# Altium integrated library Oscillator - TCXO.IntLib: 15 symbols
Pins are listed as number, name and electrical type; pins without a type are passive.

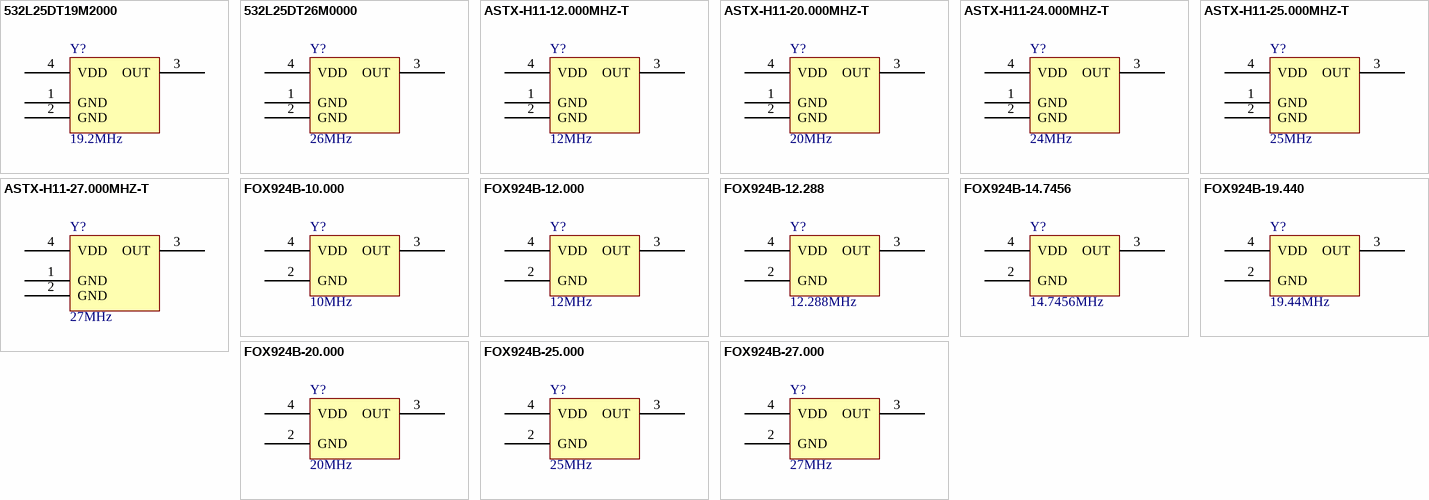
[diagram p0: symbols 532L25DT19M2000 to FOX924B-27.000]

## 532L25DT19M2000
designator Y?, comment 19.2MHz
OSC TCXO 19.2MHZ CLPSNWV SMD; Part Number: 532L25DT19M2000; Manufacturer: CTS-Frequency Controls; Frequency Stability: 2.5ppm; PartId: 9103; Supplier 1: Digi-Key; Supplier Part Number 1: CTX808TR-ND; ComponentLink1Description: Datasheet; ComponentLink1URL: http://www.ctscorp.com/wp-content/uploads/2015/11/008-0324-0.pdf; ComponentLink2Description: Digi-Key Listing; ComponentLink2URL: http://www.digikey.com/product-search/en?pv7=1&FV=ffec2ac1&mnonly=0&newproducts=0&ColumnSort=0&page=1&stock=1&quantity=0&ptm=0&fid=0&pageSize=500; Price: 2.73; Type: TCXO; Device Package: 4-SMD, No Lead (DFN, LCC); Frequency: 19.2MHz
footprint CTS Model 532
pins: 1 GND, 2 GND, 3 OUT, 4 VDD

## 532L25DT26M0000
designator Y?, comment 26MHz
OSC TCXO 26.000MHZ SINE WAVE SMD; Part Number: 532L25DT26M0000; Manufacturer: CTS-Frequency Controls; Frequency Stability: 2.5ppm; PartId: 9104; Supplier 1: Digi-Key; Supplier Part Number 1: CTX810CT-ND; ComponentLink1Description: Datasheet; ComponentLink1URL: http://www.ctscorp.com/wp-content/uploads/2015/11/008-0324-0.pdf; ComponentLink2Description: Digi-Key Listing; ComponentLink2URL: http://www.digikey.com/product-detail/en/532L25DT26M0000/CTX810CT-ND/1939236; Price: 3.81; Type: TCXO; Device Package: 4-SMD, No Lead (DFN, LCC); Frequency: 26MHz
footprint CTS Model 532
pins: 1 GND, 2 GND, 3 OUT, 4 VDD

## ASTX-H11-12.000MHZ-T
designator Y?, comment 12MHz
OSC TCXO 12.000MHZ HCMOS SMD; Part Number: ASTX-H11-12.000MHZ-T; Manufacturer: Abracon LLC; Frequency Stability: 2.5ppm; PartId: 9145; Supplier 1: Digi-Key; Supplier Part Number 1: 535-12043-2-ND; ComponentLink1Description: Datasheet; ComponentLink1URL: http://www.abracon.com/Oscillators/ASTX-H11.pdf; ComponentLink2Description: Digi-Key Listing; ComponentLink2URL: https://www.digikey.com/product-detail/en/ASTX-H11-12.000MHZ-T/535-12043-2-ND/3641089; Price: 2.03; Type: TCXO; Device Package: 4-SMD; Series: ASTX-H11; Frequency: 12MHz
footprint Abracon ASTX-11
pins: 1 GND, 2 GND, 3 OUT, 4 VDD

## ASTX-H11-20.000MHZ-T
designator Y?, comment 20MHz
OSC TCXO 20.000MHZ HCMOS SMD; Part Number: ASTX-H11-20.000MHZ-T; Manufacturer: Abracon LLC; Frequency Stability: 2.5ppm; PartId: 9146; Supplier 1: Digi-Key; Supplier Part Number 1: 535-12045-2-ND; ComponentLink1Description: Datasheet; ComponentLink1URL: http://www.abracon.com/Oscillators/ASTX-H11.pdf; ComponentLink2Description: Digi-Key Listing; ComponentLink2URL: https://www.digikey.com/product-detail/en/ASTX-H11-20.000MHZ-T/535-12045-2-ND/3641100; Price: 2.146; Type: TCXO; Device Package: 4-SMD; Series: ASTX-H11; Frequency: 20MHz
footprint Abracon ASTX-11
pins: 1 GND, 2 GND, 3 OUT, 4 VDD

## ASTX-H11-24.000MHZ-T
designator Y?, comment 24MHz
OSC TCXO 24.000MHZ HCMOS SMD; Part Number: ASTX-H11-24.000MHZ-T; Manufacturer: Abracon LLC; Frequency Stability: 2.5ppm; PartId: 9142; Supplier 1: Digi-Key; Supplier Part Number 1: 535-12046-2-ND; ComponentLink1Description: Datasheet; ComponentLink1URL: http://www.abracon.com/Oscillators/ASTX-H11.pdf; ComponentLink2Description: Digi-Key Listing; ComponentLink2URL: https://www.digikey.com/product-detail/en/ASTX-H11-24.000MHZ-T/535-12046-2-ND/3641101; Price: 2.146; Type: TCXO; Device Package: 4-SMD; Series: ASTX-H11; Frequency: 24MHz
footprint Abracon ASTX-11
pins: 1 GND, 2 GND, 3 OUT, 4 VDD

## ASTX-H11-25.000MHZ-T
designator Y?, comment 25MHz
OSC TCXO 25.000MHZ HCMOS SMD; Part Number: ASTX-H11-25.000MHZ-T; Manufacturer: Abracon LLC; Frequency Stability: 2.5ppm; PartId: 9143; Supplier 1: Digi-Key; Supplier Part Number 1: 535-12039-2-ND; ComponentLink1Description: Datasheet; ComponentLink1URL: http://www.abracon.com/Oscillators/ASTX-H11.pdf; ComponentLink2Description: Digi-Key Listing; ComponentLink2URL: https://www.digikey.com/product-detail/en/ASTX-H11-25.000MHZ-T/535-12039-2-ND/3906606; Price: 2.146; Type: TCXO; Device Package: 4-SMD, No Lead (DFN, LCC); Series: ASTX-H11; Frequency: 25MHz
footprint Abracon ASTX-11
pins: 1 GND, 2 GND, 3 OUT, 4 VDD

## ASTX-H11-27.000MHZ-T
designator Y?, comment 27MHz
OSC TCXO 27.000MHZ HCMOS SMD; Part Number: ASTX-H11-27.000MHZ-T; Manufacturer: Abracon LLC; Frequency Stability: 2.5ppm; PartId: 9144; Supplier 1: Digi-Key; Supplier Part Number 1: 535-12040-2-ND; ComponentLink1Description: Datasheet; ComponentLink1URL: http://www.abracon.com/Oscillators/ASTX-H11.pdf; ComponentLink2Description: Digi-Key Listing; ComponentLink2URL: https://www.digikey.com/product-detail/en/ASTX-H11-27.000MHZ-T/535-12040-2-ND/3906607; Price: 2.146; Type: TCXO; Device Package: 4-SMD, No Lead (DFN, LCC); Series: ASTX-H11; Frequency: 27MHz
footprint Abracon ASTX-11
pins: 1 GND, 2 GND, 3 OUT, 4 VDD

## FOX924B-10.000
designator Y?, comment 10MHz
OSC TCXO 10.000MHZ HCMOS SMD; Part Number: FOX924B-10.000; Manufacturer: Fox Electronics; Frequency Stability: 2.5ppm; PartId: 9108; Supplier 1: Digi-Key; Supplier Part Number 1: 631-1067-2-ND; ComponentLink1Description: Datasheet; ComponentLink1URL: http://www.foxonline.com/pdfs/fox924.pdf; ComponentLink2Description: Digi-Key Listing; ComponentLink2URL: https://www.digikey.com/product-detail/en/FOX924B-10.000/631-1067-2-ND/1024659; Price: 1.7545; Type: TCXO; Device Package: 4-SMD, No Lead (DFN, LCC); Series: FOX924; Frequency: 10MHz
footprint FOX 924
pins: 2 GND, 3 OUT, 4 VDD

## FOX924B-12.000
designator Y?, comment 12MHz
OSC TCXO 12.000MHZ HCMOS SMD; Part Number: FOX924B-12.000; Manufacturer: Fox Electronics; Frequency Stability: 2.5ppm; PartId: 9109; Supplier 1: Digi-Key; Supplier Part Number 1: 631-1068-2-ND; ComponentLink1Description: Datasheet; ComponentLink1URL: http://www.foxonline.com/pdfs/fox924.pdf; ComponentLink2Description: Digi-Key Listing; ComponentLink2URL: https://www.digikey.com/product-detail/en/FOX924B-12.000/631-1068-2-ND/1024660; Price: 1.7545; Type: TCXO; Device Package: 4-SMD, No Lead (DFN, LCC); Series: FOX924; Frequency: 12MHz
footprint FOX 924
pins: 2 GND, 3 OUT, 4 VDD

## FOX924B-12.288
designator Y?, comment 12.288MHz
OSC TCXO 12.288MHZ HCMOS SMD; Part Number: FOX924B-12.288; Manufacturer: Fox Electronics; Frequency Stability: 2.5ppm; PartId: 9111; Supplier 1: Digi-Key; Supplier Part Number 1: 631-1069-2-ND; ComponentLink1Description: Datasheet; ComponentLink1URL: http://www.foxonline.com/pdfs/fox924.pdf; ComponentLink2Description: Digi-Key Listing; ComponentLink2URL: https://www.digikey.com/product-detail/en/FOX924B-12.288/631-1069-2-ND/1024661; Price: 2.394; Type: TCXO; Device Package: 4-SMD, No Lead (DFN, LCC); Series: FOX924; Frequency: 12.288MHz
footprint FOX 924
pins: 2 GND, 3 OUT, 4 VDD

## FOX924B-14.7456
designator Y?, comment 14.7456MHz
OSC TCXO 14.7456MHZ HCMOS SMD; Part Number: FOX924B-14.7456; Manufacturer: Fox Electronics; Frequency Stability: 2.5ppm; PartId: 9110; Supplier 1: Digi-Key; Supplier Part Number 1: 631-1070-2-ND; ComponentLink1Description: Datasheet; ComponentLink1URL: http://www.foxonline.com/pdfs/fox924.pdf; ComponentLink2Description: Digi-Key Listing; ComponentLink2URL: https://www.digikey.com/product-detail/en/FOX924B-14.7456/631-1070-2-ND/1024662; Price: 2.394; Type: TCXO; Device Package: 4-SMD, No Lead (DFN, LCC); Series: FOX924; Frequency: 14.7456MHz
footprint FOX 924
pins: 2 GND, 3 OUT, 4 VDD

## FOX924B-19.440
designator Y?, comment 19.44MHz
OSC TCXO 19.44MHZ HCMOS SMD; Part Number: FOX924B-19.440; Manufacturer: Fox Electronics; Frequency Stability: 2.5ppm; PartId: 9112; Supplier 1: Digi-Key; Supplier Part Number 1: 631-1072-2-ND; ComponentLink1Description: Datasheet; ComponentLink1URL: http://www.foxonline.com/pdfs/fox924.pdf; ComponentLink2Description: Digi-Key Listing; ComponentLink2URL: https://www.digikey.com/product-detail/en/FOX924B-19.440/631-1072-2-ND/1024664; Price: 2.394; Type: TCXO; Device Package: 4-SMD, No Lead (DFN, LCC); Series: FOX924; Frequency: 19.44MHz
footprint FOX 924
pins: 2 GND, 3 OUT, 4 VDD

## FOX924B-20.000
designator Y?, comment 20MHz
OSC TCXO 20.000MHZ HCMOS SMD; Part Number: FOX924B-20.000; Manufacturer: Fox Electronics; Frequency Stability: 2.5ppm; PartId: 9106; Supplier 1: Digi-Key; Supplier Part Number 1: 631-1073-2-ND; ComponentLink1Description: Datasheet; ComponentLink1URL: http://www.foxonline.com/pdfs/fox924.pdf; ComponentLink2Description: Digi-Key Listing; ComponentLink2URL: https://www.digikey.com/product-detail/en/FOX924B-20.000/631-1073-2-ND/1024665; Price: 1.7545; Type: TCXO; Device Package: 4-SMD, No Lead (DFN, LCC); Series: FOX924; Frequency: 20MHz
footprint FOX 924
pins: 2 GND, 3 OUT, 4 VDD

## FOX924B-25.000
designator Y?, comment 25MHz
OSC TCXO 25.000MHZ HCMOS SMD; Part Number: FOX924B-25.000; Manufacturer: Fox Electronics; Frequency Stability: 2.5ppm; PartId: 9105; Supplier 1: Digi-Key; Supplier Part Number 1: 631-1074-2-ND; ComponentLink1Description: Datasheet; ComponentLink1URL: http://www.foxonline.com/pdfs/fox924.pdf; ComponentLink2Description: Digi-Key Listing; ComponentLink2URL: https://www.digikey.com/product-detail/en/FOX924B-25.000/631-1074-2-ND/1024666; Price: 1.7545; Type: TCXO; Device Package: 4-SMD, No Lead (DFN, LCC); Series: FOX924; Frequency: 25MHz
footprint FOX 924
pins: 2 GND, 3 OUT, 4 VDD

## FOX924B-27.000
designator Y?, comment 27MHz
OSC TCXO 27.000MHZ HCMOS SMD; Part Number: FOX924B-27.000; Manufacturer: Fox Electronics; Frequency Stability: 2.5ppm; PartId: 9107; Supplier 1: Digi-Key; Supplier Part Number 1: 631-1075-2-ND; ComponentLink1Description: Datasheet; ComponentLink1URL: http://www.foxonline.com/pdfs/fox924.pdf; ComponentLink2Description: Digi-Key Listing; ComponentLink2URL: https://www.digikey.com/product-detail/en/FOX924B-27.000/631-1075-2-ND/1024667; Price: 1.7545; Type: TCXO; Device Package: 4-SMD, No Lead (DFN, LCC); Series: FOX924; Frequency: 27MHz
footprint FOX 924
pins: 2 GND, 3 OUT, 4 VDD